# EAGLE library part TPS70933DRVR (library TPS70933DRVR)
150-mA 30-V ultra-low-Iq wide-input low-dropout (LDO) regulator with reverse current protection Source: Datasheet <http://www.ti.com/lit/gpn/tps709>
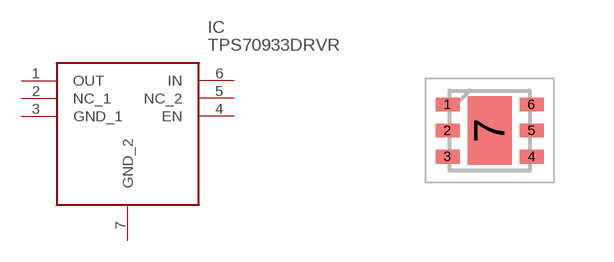
[diagram p0: symbol with the pads of SON65P200X200X80-7N; footprint SON65P200X200X80-7N]

Designator prefix IC

## TPS70933DRVR (Description: 150-mA 30-V ultra-low-Iq wide-input low-dropout (LDO) regulator with reverse current protection; Height: 0.8mm; Manufacturer_Name: Texas Instruments; Manufacturer_Part_Number: TPS70933DRVR; Mouser_Part_Number: 595-TPS70933DRVR; Mouser_Price-Stock: https://www.mouser.co.uk/ProductDetail/Texas-Instruments/TPS70933DRVR?qs=R0RaSr%2FznUQFEcQCz0C0iw%3D%3D)  [SON65P200X200X80-7N]
1  OUT
2  NC_1
3  GND_1
4  EN
5  NC_2
6  IN
7  GND_2

## Footprint SON65P200X200X80-7N (pad centres in mm)
TPS70933DRVR
smd 0.6 x 0.35: 1 -1.05,0.65; 2 -1.05,0; 3 -1.05,-0.65; 4 1.05,-0.65; 5 1.05,0; 6 1.05,0.65
smd 1.1 x 1.7: 7 0,0